# EAGLE library part PIC16C*?-20 (library 24LC256ST)
MICROCONTROLLER Pin compatible devices PIC16C5X family: EPROM/ROM-based PIC16C55X family: EPROM-based PIC16C6X family PIC16CE62X family: analog comparators/EEPROM data memory PIC16C7X family: A/D converter PIC16C71X family: A/D converter Pin compatible devices: PIC16C154, PIC16CR154, PIC16C156, PIC16CR156, PIC16C158 PIC16CR158, PIC16C52, PIC16C54, PIC16C54A, PIC16CR54A PIC16C56, PIC16C58A, PIC16CR58A, PIC16C61, PIC16C554 PIC16C556, PIC16C558, PIC16C620, PIC16C621, PIC16C622 PIC16C641, PIC16C642, PIC16C661, PIC16C662, PIC16C71 PIC16C710, PIC16C711, PIC16C715, PIC126F83, PIC16CR83 PIC16F84A, PIC16CR84
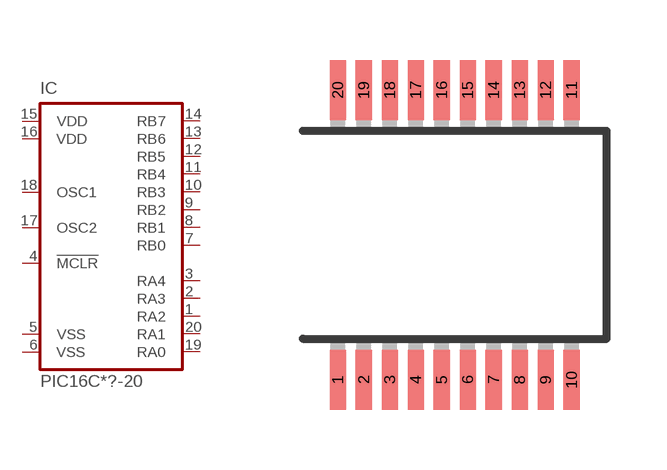
[diagram p22: symbol with the pads of SSOP20; footprint SSOP20]

Designator prefix IC

## PIC16C154SS-20 (OC_FARNELL: unknown; OC_NEWARK: unknown), PIC16C156SS-20 (OC_FARNELL: unknown; OC_NEWARK: unknown), PIC16C158SS-20 (OC_FARNELL: unknown; OC_NEWARK: unknown), PIC16C54SS-20 (MF: MICROCHIP; MPN: PIC16C54-RCI/SS; OC_FARNELL: unknown; OC_NEWARK: 23C3206), PIC16C54ASS-20 (OC_FARNELL: unknown; OC_NEWARK: unknown), PIC16C554SS-20 (OC_FARNELL: unknown; OC_NEWARK: unknown), PIC16C556SS-20 (OC_FARNELL: unknown; OC_NEWARK: unknown), PIC16C558SS-20 (MF: MICROCHIP; MPN: PIC16C558-20I/SS; OC_FARNELL: unknown; OC_NEWARK: 23C3497), PIC16C56SS-20 (MF: MICROCHIP; MPN: PIC16C56-HSI/SS; OC_FARNELL: 116506; OC_NEWARK: 23C3519), PIC16C58ASS-20 (MF: MICROCHIP; MPN: PIC16C58B-04/SS; OC_FARNELL: unknown; OC_NEWARK: 23C3738), PIC16C620SS-20 (MF: MICROCHIP; MPN: PIC16C620A-04/SS; OC_FARNELL: unknown; OC_NEWARK: 23C3858), PIC16C621SS-20 (MF: MICROCHIP; MPN: PIC16C621-20I/SS; OC_FARNELL: unknown; OC_NEWARK: 23C3915), PIC16C622SS-20 (MF: MICROCHIP; MPN: PIC16C622A-04/SS; OC_FARNELL: unknown; OC_NEWARK: 23C3980), PIC16C710SS-20 (OC_FARNELL: unknown; OC_NEWARK: unknown), PIC16C711SS-20 (MF: MICROCHIP; MPN: PIC16C711-04/SS; OC_FARNELL: unknown; OC_NEWARK: 23C4469), PIC16C715SS-20 (MF: MICROCHIP; MPN: PIC16C715-04/SS; OC_FARNELL: unknown; OC_NEWARK: 23C4525), PIC16CR154SS-20 (OC_FARNELL: unknown; OC_NEWARK: unknown), PIC16CR156SS-20 (OC_FARNELL: unknown; OC_NEWARK: unknown), PIC16CR158SS-20 (OC_FARNELL: unknown; OC_NEWARK: unknown), PIC16CR54ASS-20 (OC_FARNELL: unknown; OC_NEWARK: unknown), PIC16CR58ASS-20 (OC_FARNELL: unknown; OC_NEWARK: unknown)  [SSOP20]
1  RA2
2  RA3
3  RA4
4  !MCLR  in
5  VSS  pwr
6  VSS  pwr
7  RB0
8  RB1
9  RB2
10  RB3
11  RB4
12  RB5
13  RB6
14  RB7
15  VDD  pwr
16  VDD  pwr
17  OSC2  out
18  OSC1  in
19  RA0
20  RA1

## Footprint SSOP20 (pad centres in mm)
Shrink Small Outline Package package type SS
smd 0.4 x 1.5: 1 -2.925,-3.625; 2 -2.275,-3.625; 3 -1.625,-3.625; 4 -0.975,-3.625; 5 -0.325,-3.625; 6 0.325,-3.625; 7 0.975,-3.625; 8 1.625,-3.625; 9 2.275,-3.625; 10 2.925,-3.625; 11 2.925,3.625; 12 2.275,3.625; 13 1.625,3.625; 14 0.975,3.625; 15 0.325,3.625; 16 -0.325,3.625; 17 -0.975,3.625; 18 -1.625,3.625; 19 -2.275,3.625; 20 -2.925,3.625